# EAGLE library part LM555N (library Tutorial - Fusion 360)
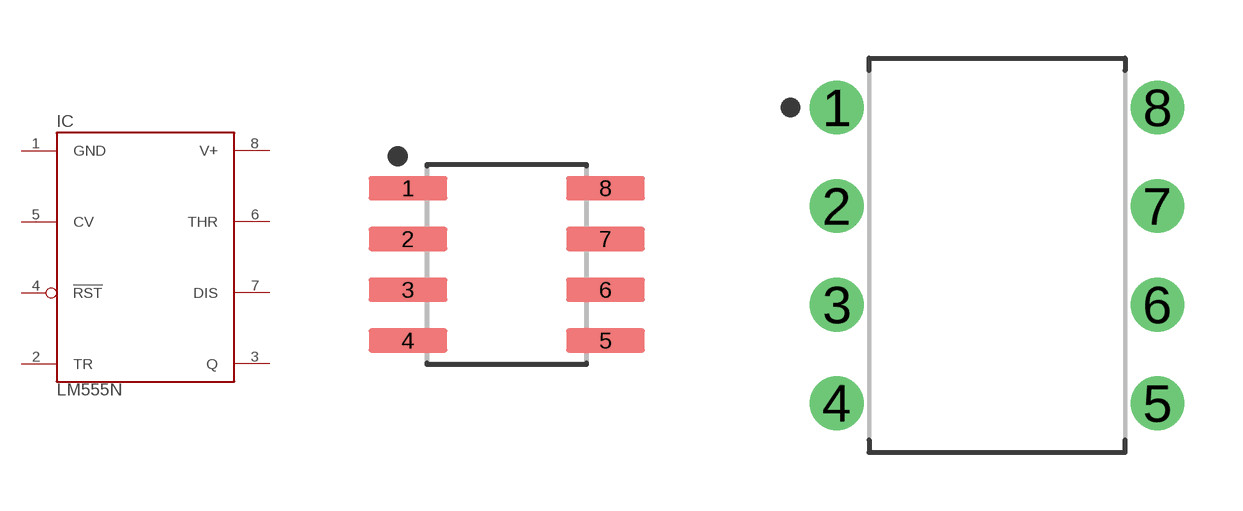
[diagram p0: symbol with the pads of D0008A; footprints D0008A, P(R-PDIP-T8)]

Designator prefix IC

## LM555ND0008A  [D0008A]
1  GND  pwr
2  TR  in
3  Q  out
4  !RST  in
5  CV  in
6  THR  in
7  DIS  in
8  V+  pwr

## LM555NR-PDIP-T8  [P(R-PDIP-T8)]
Pads as for D0008A

## LM555NS-PDSO-G8  [SOP65P487X110-8N]
Pads as for D0008A

## Footprint D0008A (pad centres in mm)
8-SOIC, 1.27 mm pitch, 6.00 mm span, 4.91 X 3.90 X 1.75 mm body 8-pin SOIC package with 1.27 mm pitch, 6.00 mm span with body size 4.91 X 3.90 X 1.75 mm
smd 1.965 x 0.602: 1 -2.47,1.905; 2 -2.47,0.635; 3 -2.47,-0.635; 4 -2.47,-1.905; 5 2.47,-1.905; 6 2.47,-0.635; 7 2.47,0.635; 8 2.47,1.905

## Footprint P(R-PDIP-T8) (pad centres in mm)
8-DIP, 2.54 mm (0.10 in) pitch, 8.26 mm (0.33 in) span, 9.59 X 6.35 X 5.08 mm body 8-pin DIP package with 2.54 mm (0.10 in) pitch, 8.26 mm (0.33 in) span with body size 9.59 X 6.35 X 5.08 mm
drill 0.786 pad 1.386: 1 -4.13,3.81; 2 -4.13,1.27; 3 -4.13,-1.27; 4 -4.13,-3.81; 5 4.13,-3.81; 6 4.13,-1.27; 7 4.13,1.27; 8 4.13,3.81

## Footprint SOP65P487X110-8N (pad centres in mm)
8-SOP, 0.65 mm pitch, 4.88 mm span, 3.00 X 3.00 X 1.10 mm body 8-pin SOP package with 0.65 mm pitch, 4.88 mm span with body size 3.00 X 3.00 X 1.10 mm
smd 1.454 x 0.46: 1 -2.135,0.975; 2 -2.135,0.325; 3 -2.135,-0.325; 4 -2.135,-0.975; 5 2.135,-0.975; 6 2.135,-0.325; 7 2.135,0.325; 8 2.135,0.975